# Altium footprint library SMD_Resistors_Footprints.PcbLib: 4 footprints
Each footprint in its own frame and in the unit in brackets; x right, y up, seen from the top. Pads: shape width x height; smd on the part's side, far side on the other; paste and mask are expansions set on the pad; w line width, h text height; cw(c..) or ccw(c..) is an arc to the next point about the centre after c.
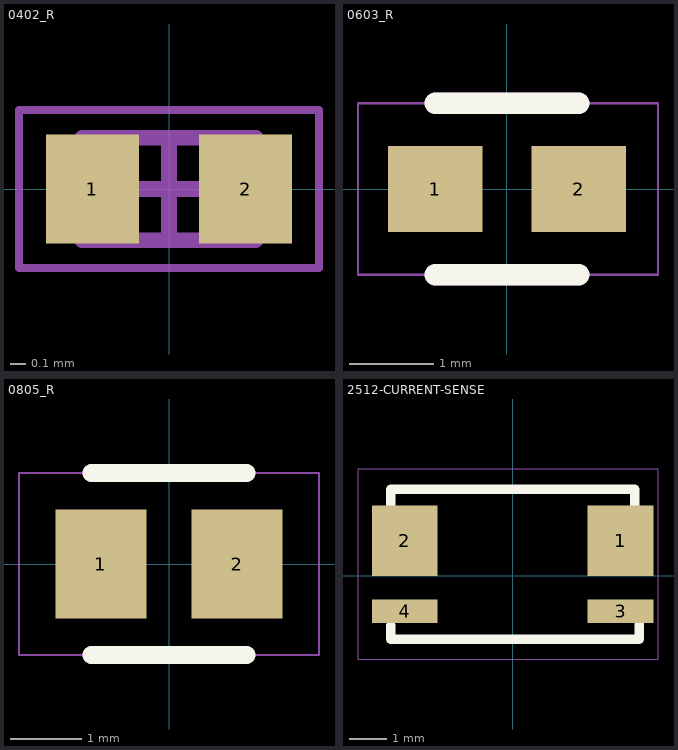
[diagram p0: the footprints below, top view; thin cyan lines are the x and y axes]

## 0402_R [mm] "Chip Inductor, 2-Leads, Body 1.00x0.55mm, IPC Medium Density"
height 0.6
pads (2):
  rect 0.59x0.69 smd: 1(-0.485,0) 2(0.485,0)
Top Assembly:
  lines w0.1: -0.55,-0.325 0.55,-0.325 0.55,0.325 -0.55,0.325 -0.55,-0.325
Mechanical 15:
  lines w0.05: -0.95,-0.5 0.95,-0.5 0.95,0.5 -0.95,0.5 -0.95,-0.5
  lines w0.1: -0.325,0 0.325,0 ; 0,-0.325 0,0.325
3D body "R_0402_1005Metric.step": height 0.35, standoff 0, extent -0.5,-0.25 0.5,0.25

## 0603_R [mil]
pads (2):
  rect 44x40 smd: 1(-33.5,0) 2(33.5,0)
Top Overlay:
  lines w10: -33.5,-40 33.5,-40 ; -33.5,40 33.5,40
Top Assembly:
  lines w10: -33.5,-40 33.5,-40 -33.5,-40 ; -33.5,40 33.5,40 -33.5,40
Mechanical 20:
  lines w1: -69.5,-40 -69.5,40 70.5,40 70.5,-40 -69.5,-40
3D body "R_0603_1608Metric.step": height 17.72, standoff 0, extent -31.5,-15.75 31.5,15.75

## 0805_R [mil]
pads (2):
  rect 50x60 smd: 1(-37.5,0) 2(37.5,0)
Top Overlay:
  lines w10: -42.5,-50 42.5,-50 ; -42.5,50 42.5,50
Top Assembly:
  lines w10: -42.5,-50 42.5,-50 ; -42.5,50 42.5,50
Mechanical 16:
  lines w1: -82.5,-50 82.5,-50 82.5,50 -82.5,50 -82.5,-50
3D body "R_0805_2012Metric.step": height 17.72, standoff 0, extent -39.37,-23.62 39.37,23.62

## 2512-CURRENT-SENSE [mil]
pads (4):
  rect 70x75 smd: 1(115,37.5) 2(-115,37.5)
  rect 70x25 smd: 3(115,-37.5) 4(-115,-37.5)
Top Overlay:
  lines w10: -130,-52.5 -130,-67.5 135,-67.5 135,-47.5 ; -130,72.5 -130,92.5 130,92.5 130,72.5
Mechanical 16:
  lines w1: -165,-88.77 155,-88.77 155,114.17 -165,114.17 -165,-88.77
3D body "R_2512_6332Metric.step": height 23.62, standoff 0, extent -129.02,-50.49 119.02,75.49